# Altium footprint library VQFN-14_3.6x3.6x05P.PcbLib: 1 footprints
Each footprint in its own frame and in the unit in brackets; x right, y up, seen from the top. Pads: shape width x height; smd on the part's side, far side on the other; paste and mask are expansions set on the pad; w line width, h text height; cw(c..) or ccw(c..) is an arc to the next point about the centre after c.
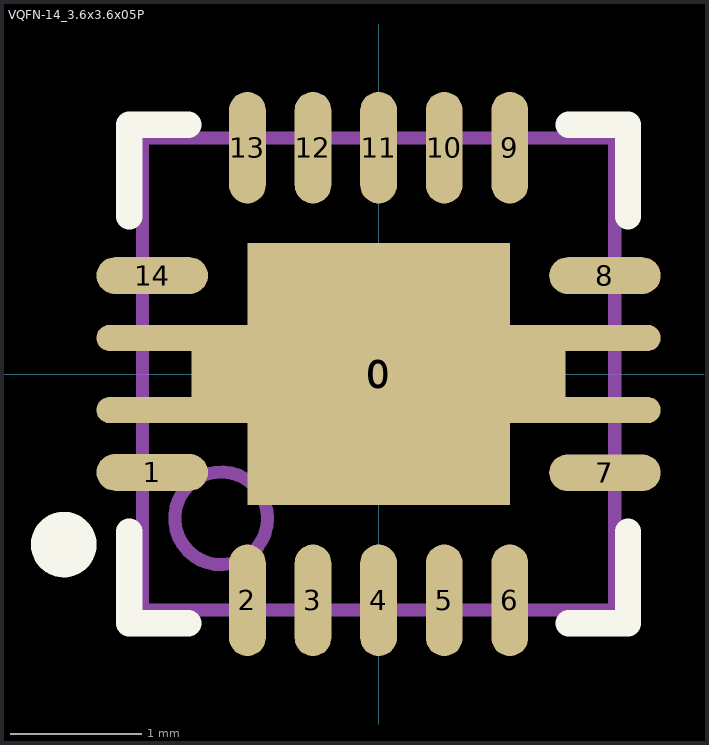
[diagram p0: the footprint, top view; thin cyan lines are the x and y axes]

## VQFN-14_3.6x3.6x05P [mm]
pads (18):
  rect 2.85x0.35 smd mask+0.051: 0(0,0)
  rect 2x2 smd mask+0.051: 0(0,0)
  oval 0.85x0.28 smd mask+0.051: 1(-1.725,-0.75) 7(1.725,-0.753) 8(1.725,0.75) 14(-1.725,0.75)
  oval 0.28x0.85 smd mask+0.051: 2(-1,-1.725) 3(-0.5,-1.725) 4(0,-1.725) 5(0.5,-1.725) 6(1,-1.725) 9(1,1.725) 10(0.5,1.725) 11(0,1.725) 12(-0.5,1.725) 13(-1,1.725)
  oval 4.3x0.2 smd mask+0.051: ""(0,-0.275) ""(0,0.275)
Top Overlay:
  circle w0.25: c-2.4,-1.3 r0.125
  lines w0.2: -1.9,-1.2 -1.9,-1.9 -1.45,-1.9 ; -1.9,1.2 -1.9,1.9 -1.45,1.9 ; 1.45,-1.9 1.9,-1.9 1.9,-1.2 ; 1.45,1.9 1.9,1.9 1.9,1.2
Mechanical 13:
  circle w0.1: c-1.2,-1.1 r0.354
  lines w0.1: -1.8,-1.8 1.8,-1.8 1.8,1.8 -1.8,1.8 -1.8,-1.8